# Altium schematic symbol library RESISTOR_AC0603JR-07270RL.SchLib: 1 symbol
Pins are listed as number, name and electrical type; pins without a type are passive.

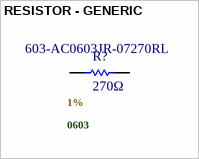
[diagram p0: symbol RESISTOR - GENERIC]

## RESISTOR - GENERIC
designator R?, comment 270Ω  Supplier Part Number: 603-AC0603JR-07270RL  .Case/Package: 0603  .Tolerance: 1%
Res Thick Film 0603 270 Ohm 5% 0.1W(1/10W) ±100ppm/C Pad SMD Automotive T/R; Manufacturer: Yageo Group; Manufacturer Part Number: AC0603JR-7W68RL; Power Dissipation: 200mW; Temperature Coefficient: 100ppm/°C; Voltage Rating: 75V; Max Power Dissipation: 100mW; Supplier 1: Mouser; RoHS: Compliant; Category: Chip SMD Resistors; Stock 1: 63636; Pricing 1: 1=0,16, 10=0,016, 50=0,016, 100=0,013, 1000=0,013, 10000=0,009 (USD); Case/Package: 0603; China RoHS: Non-Compliant; Composition: Thick Film; Height: 450µm; Lifecycle Status: Production; Max Operating Temperature: 155°C; Min Operating Temperature: -55°C; Mount: Surface Mount; Number of Terminals: 2; Packaging: Tape & Reel; Power Rating: 200mW; REACH SVHC: Yes; Tolerance: 1%; Width: 800µm; Working Voltage: 75V; ComponentLink4URL: http://sigma.octopart.com:80/rohs_statement/Yageo-company-2.pdf?src-supplier=Compliance+Statements; ComponentLink4Description: http://sigma.octopart.com:80/rohs_statement/Yageo-company-2.pdf?src-supplier=Compliance+Statements; Supplier: DigiKey; Pricing: 5000=0,0055 (USD); Mounting Technology: Surface Mount; ComponentLink6URL: https://datasheet.octopart.com:443/AC0603JR-7W68RL-Yageo-datasheet-182189377.pdf?src-supplier=IHS; ComponentLink6Description: https://datasheet.octopart.com:443/AC0603JR-7W68RL-Yageo-datasheet-182189377.pdf?src-supplier=IHS; ComponentLink7URL: https://datasheet.octopart.com:443/AC0603JR-7W68RL-Yageo-datasheet-86786639.pdf?src-supplier=Upverter; ComponentLink7Description: https://datasheet.octopart.com:443/AC0603JR-7W68RL-Yageo-datasheet-86786639.pdf?src-supplier=Upverter; ComponentLink8URL: https://datasheet.octopart.com/AC0603JR-7W68RL-Yageo-datasheet-12512238.pdf; ComponentLink8Description: https://datasheet.octopart.com/AC0603JR-7W68RL-Yageo-datasheet-12512238.pdf; ComponentLink1URL: https://datasheet.octopart.com:443/AC0603JR-7W68RL-Yageo-datasheet-182189377.pdf?src-supplier=IHS; ComponentLink1Description: https://datasheet.octopart.com:443/AC0603JR-7W68RL-Yageo-datasheet-182189377.pdf?src-supplier=IHS; ComponentLink2URL: https://datasheet.octopart.com:443/AC0603JR-7W68RL-Yageo-datasheet-86786639.pdf?src-supplier=Upverter; ComponentLink2Description: https://datasheet.octopart.com:443/AC0603JR-7W68RL-Yageo-datasheet-86786639.pdf?src-supplier=Upverter; ComponentLink3URL: https://datasheet.octopart.com/AC0603JR-7W68RL-Yageo-datasheet-12512238.pdf; ComponentLink3Description: https://datasheet.octopart.com/AC0603JR-7W68RL-Yageo-datasheet-12512238.pdf; ComponentLink5URL: http://sigma.octopart.com:80/conflict_mineral_statement/Yageo-company-3.pdf?src-supplier=Compliance+Statements; ComponentLink5Description: http://sigma.octopart.com:80/conflict_mineral_statement/Yageo-company-3.pdf?src-supplier=Compliance+Statements; Stock: 26687; ComponentLink9URL: https://datasheet.octopart.com:443/AC0603FR-7W10RL-Yageo-datasheet-182189377.pdf?src-supplier=IHS; ComponentLink9Description: https://datasheet.octopart.com:443/AC0603FR-7W10RL-Yageo-datasheet-182189377.pdf?src-supplier=IHS; ComponentLink10URL: https://datasheet.octopart.com:443/AC0603FR-7W10RL-Yageo-datasheet-86786639.pdf?src-supplier=Upverter; ComponentLink10Description: https://datasheet.octopart.com:443/AC0603FR-7W10RL-Yageo-datasheet-86786639.pdf?src-supplier=Upverter; ComponentLink11URL: https://datasheet.octopart.com/AC0603FR-7W10RL-Yageo-datasheet-12512238.pdf; ComponentLink11Description: https://datasheet.octopart.com/AC0603FR-7W10RL-Yageo-datasheet-12512238.pdf; ComponentLink12URL: https://datasheet.octopart.com:443/AC0603JR-7W10KL-Yageo-datasheet-182189377.pdf?src-supplier=IHS; ComponentLink12Description: https://datasheet.octopart.com:443/AC0603JR-7W10KL-Yageo-datasheet-182189377.pdf?src-supplier=IHS; ComponentLink13URL: https://datasheet.octopart.com:443/AC0603JR-7W10KL-Yageo-datasheet-86786639.pdf?src-supplier=Upverter; ComponentLink13Description: https://datasheet.octopart.com:443/AC0603JR-7W10KL-Yageo-datasheet-86786639.pdf?src-supplier=Upverter; ComponentLink14URL: https://datasheet.octopart.com:443/AC0603JR-7W10KL-Yageo-datasheet-166720450.pdf?src-supplier=Future+Electronics; ComponentLink14Description: https://datasheet.octopart.com:443/AC0603JR-7W10KL-Yageo-datasheet-166720450.pdf?src-supplier=Future+Electronics; ComponentLink15URL: https://datasheet.octopart.com:443/AC0603JR-7W10KL-Yageo-datasheet-151884373.pdf?src-supplier=Future+Electronics; ComponentLink15Description: https://datasheet.octopart.com:443/AC0603JR-7W10KL-Yageo-datasheet-151884373.pdf?src-supplier=Future+Electronics; ComponentLink16URL: https://datasheet.octopart.com:443/AC0603JR-7W10KL-Yageo-datasheet-137699919.pdf?src-supplier=Future+Electronics; ComponentLink16Description: https://datasheet.octopart.com:443/AC0603JR-7W10KL-Yageo-datasheet-137699919.pdf?src-supplier=Future+Electronics; ComponentLink17URL: https://datasheet.octopart.com/AC0603JR-7W10KL-Yageo-datasheet-12512238.pdf; ComponentLink17Description: https://datasheet.octopart.com/AC0603JR-7W10KL-Yageo-datasheet-12512238.pdf; Case Code (Imperial): 0603; Case Code (Metric): 1608; Features: Automotive AEC-Q200, Moisture Resistant; Lead Free: Lead Free; Length: 1.6002mm; Number of Terminations: 2; Resistance: 270Ω; Termination: SMD/SMT; Weight: 2.012816mg; ComponentLink18URL: https://datasheet.octopart.com:443/AC0603JR-07270RL-Yageo-datasheet-182189377.pdf?src-supplier=IHS; ComponentLink18Description: https://datasheet.octopart.com:443/AC0603JR-07270RL-Yageo-datasheet-182189377.pdf?src-supplier=IHS; ComponentLink19URL: https://datasheet.octopart.com:443/AC0603JR-07270RL-Yageo-datasheet-86786639.pdf?src-supplier=Upverter; ComponentLink19Description: https://datasheet.octopart.com:443/AC0603JR-07270RL-Yageo-datasheet-86786639.pdf?src-supplier=Upverter; ComponentLink20URL: https://datasheet.octopart.com:443/AC0603JR-07270RL-Yageo-datasheet-178509465.pdf?src-supplier=Farnell; ComponentLink20Description: https://datasheet.octopart.com:443/AC0603JR-07270RL-Yageo-datasheet-178509465.pdf?src-supplier=Farnell; ComponentLink21URL: https://datasheet.octopart.com/AC0603JR-07270RL-Yageo-datasheet-12512238.pdf; ComponentLink21Description: https://datasheet.octopart.com/AC0603JR-07270RL-Yageo-datasheet-12512238.pdf; ComponentLink22URL: https://datasheet.octopart.com:443/AC0603JR-07270RL-Yageo-datasheet-166720450.pdf?src-supplier=Future+Electronics; ComponentLink22Description: https://datasheet.octopart.com:443/AC0603JR-07270RL-Yageo-datasheet-166720450.pdf?src-supplier=Future+Electronics; ComponentLink23URL: https://datasheet.octopart.com:443/AC0603JR-07270RL-Yageo-datasheet-151884373.pdf?src-supplier=Future+Electronics; ComponentLink23Description: https://datasheet.octopart.com:443/AC0603JR-07270RL-Yageo-datasheet-151884373.pdf?src-supplier=Future+Electronics; ComponentLink24URL: https://datasheet.octopart.com:443/AC0603JR-07270RL-Yageo-datasheet-137699919.pdf?src-supplier=Future+Electronics; ComponentLink24Description: https://datasheet.octopart.com:443/AC0603JR-07270RL-Yageo-datasheet-137699919.pdf?src-supplier=Future+Electronics; ComponentLink25URL: https://datasheet.octopart.com:443/AC0603JR-07270RL-Yageo-datasheet-24580492.pdf?src-supplier=Future+Electronics; ComponentLink25Description: https://datasheet.octopart.com:443/AC0603JR-07270RL-Yageo-datasheet-24580492.pdf?src-supplier=Future+Electronics; ComponentLink26URL: https://datasheet.octopart.com:443/AC0603JR-07270RL-Yageo-datasheet-128680206.pdf?src-supplier=X-ON; ComponentLink26Description: https://datasheet.octopart.com:443/AC0603JR-07270RL-Yageo-datasheet-128680206.pdf?src-supplier=X-ON
footprint R0603 - YAGEO
pins: 1, 2